# Altium footprint library 2EDGRC-5.0-09P-14-00AH.PcbLib: 1 footprints
Each footprint in its own frame and in the unit in brackets; x right, y up, seen from the top. Pads: shape width x height; smd on the part's side, far side on the other; paste and mask are expansions set on the pad; w line width, h text height; cw(c..) or ccw(c..) is an arc to the next point about the centre after c.
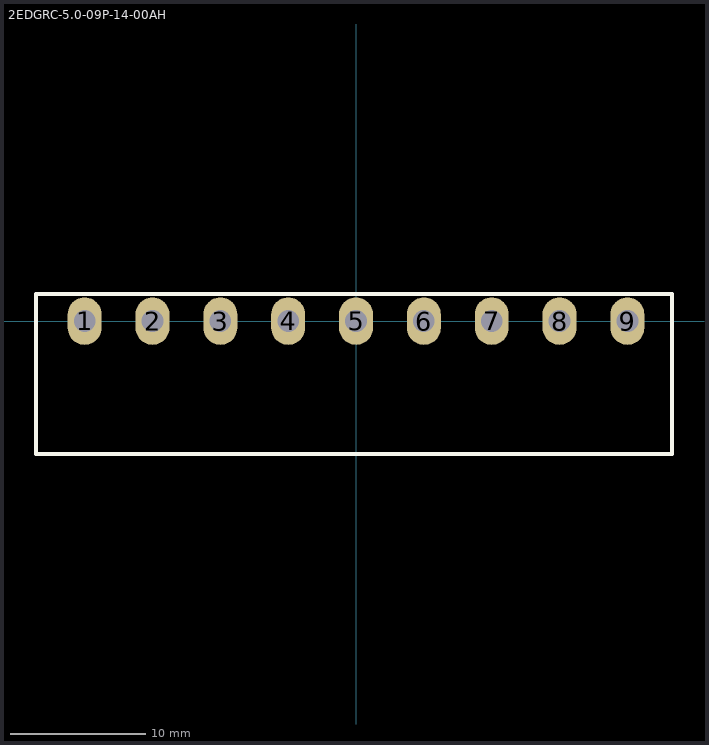
[diagram p0: the footprint, top view; thin cyan lines are the x and y axes]

## 2EDGRC-5.0-09P-14-00AH [mm]
pads (9):
  oval 2.5x3.5 hole 1.6: 1(-20,0) 2(-15,0) 3(-10,0) 4(-5,0) 5(0,0) 6(5,0) 7(10,0) 8(15,0) 9(20,0)
Top Overlay:
  lines w0.3: -23.6,-9.8 -23.6,2 -1.4,2 23.3,2 23.3,-9.8 -23.6,-9.8
3D body: height 8.4, standoff -3.45, extent -23.7,-10 23.3,2